# Altium footprint library TIP31C2.PcbLib: 1 footprints
Each footprint in its own frame and in the unit in brackets; x right, y up, seen from the top. Pads: shape width x height; smd on the part's side, far side on the other; paste and mask are expansions set on the pad; w line width, h text height; cw(c..) or ccw(c..) is an arc to the next point about the centre after c.
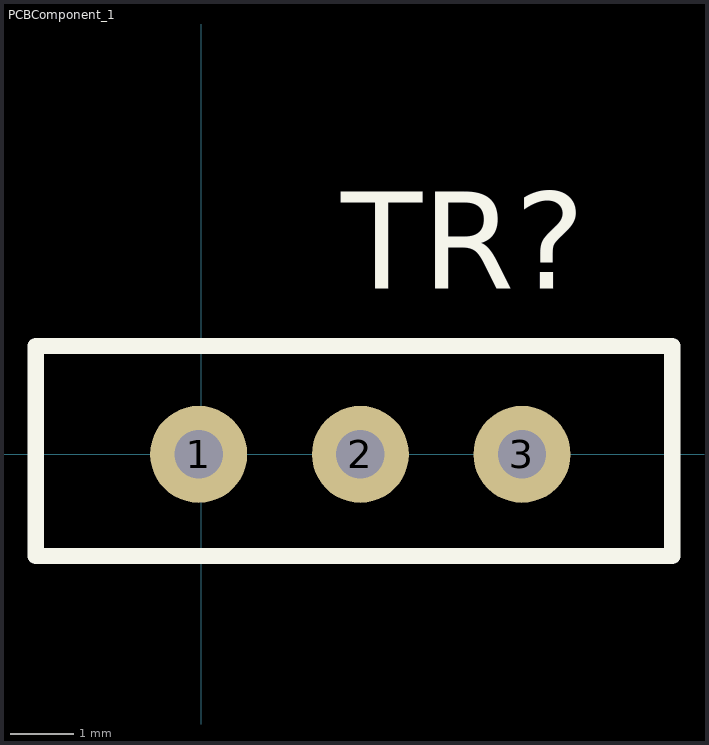
[diagram p0: the footprint, top view; thin cyan lines are the x and y axes]

## PCBComponent_1 [mil]
pads (3):
  round 60 hole 30: 1(-1.57,0) 2(98.43,0) 3(198.43,0)
Top Overlay:
  lines w10: -102.36,-62.99 -102.36,66.93 291.34,66.93 291.34,-62.99 -102.36,-62.99
  text "TR?" at 86.61,102.36 h60